# Altium integrated library LCD.IntLib: 1 symbol
Pins are listed as number, name and electrical type; pins without a type are passive.

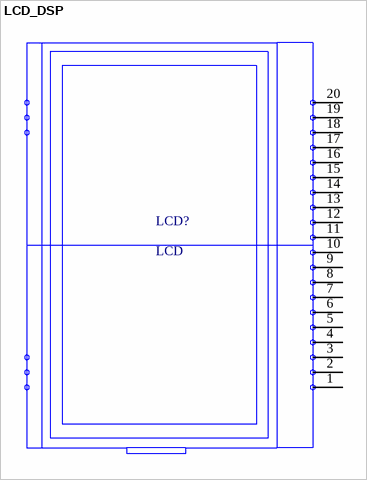
[diagram p0: symbol LCD_DSP]

## LCD_DSP
designator LCD?, comment LCD
LCD-AG-C128064CF-FHW K/W-E6 PBF Kupiony w ARTRONIC. Wy?wietlacz graficzny 128x64. 128x64 COG TYPE kontrast!!! THT PINS FSTN 3.3V ST7565R separate ECO backlight 15mA only !!!; Package: None; Price: None; Value: *; MP: LCD; Availability: Unavailable
footprint LCD
pins: 1 V0, 2 V1, 3 V2, 4   , 5 V4, 6 VSS@1, 7 CAP2N, 8 CAP2P, 9 CAP1P, 10 CAP1N, 11 CAP3P, 12 VOUT, 13 VSS@2, 14 VDD@2, 15 VDD@1, 16 SI, 17 SCL, 18 A0, 19 RST, 20 CS1B